# Altium footprint library 智能饮水机.PcbLib: 20 footprints (part 2 of 2)
Each footprint in its own frame and in the unit in brackets; x right, y up, seen from the top. Pads: shape width x height; smd on the part's side, far side on the other; paste and mask are expansions set on the pad; w line width, h text height; cw(c..) or ccw(c..) is an arc to the next point about the centre after c.
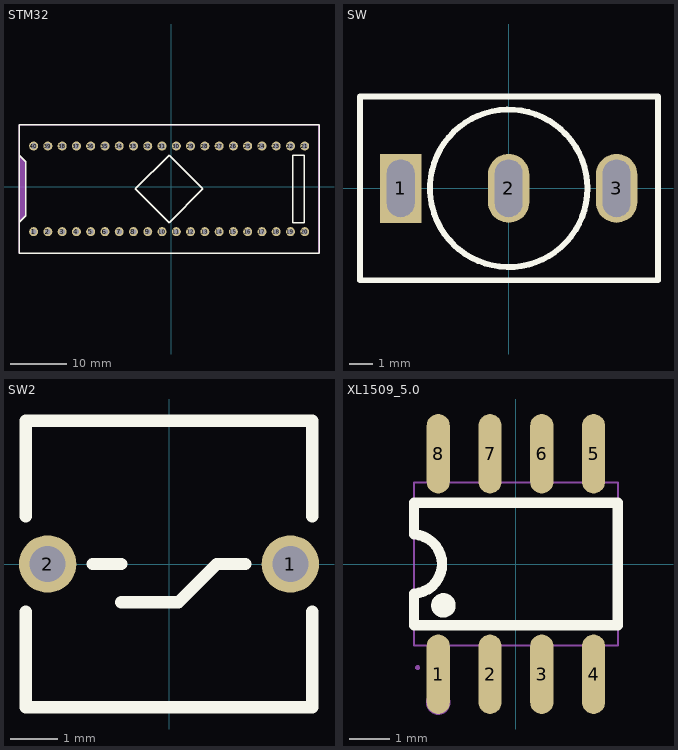
[diagram p1: the footprints below, top view; thin cyan lines are the x and y axes]

## STM32 [mm]
pads (40):
  round 1.6 hole 1: 1(-24.511,-8.001) 2(-21.971,-8.001) 3(-19.431,-8.001) 4(-16.891,-8.001) 5(-14.351,-8.001) 6(-11.811,-8.001) 7(-9.271,-8.001) 8(-6.731,-8.001) 9(-4.191,-8.001) 10(-1.651,-8.001) 11(0.889,-8.001) 12(3.429,-8.001) 13(5.969,-8.001) 14(8.509,-8.001) 15(11.049,-8.001) 16(13.589,-8.001) 17(16.129,-8.001) 18(18.669,-8.001) 19(21.209,-8.001) 20(23.749,-8.001) 21(23.749,7.239) 22(21.209,7.239) 23(18.669,7.239) 24(16.129,7.239) 25(13.589,7.239) 26(11.049,7.239) 27(8.509,7.239) 28(5.969,7.239) 29(3.429,7.239) 30(0.889,7.239) 31(-1.651,7.239) 32(-4.191,7.239) 33(-6.731,7.239) 34(-9.271,7.239) 35(-11.811,7.239) 36(-14.351,7.239) 37(-16.891,7.239) 38(-19.431,7.239) 39(-21.971,7.239) 40(-24.511,7.239)
Top Overlay:
  lines w0.254: -27.051,-6.326 -25.881,-5.156 -25.881,3.619 -25.881,4.417 -27.051,5.587 ; -27.051,-11.811 -27.051,11.049 26.289,11.049 26.289,-11.811 -27.051,-11.811 ; -6.381,-0.381 -0.381,5.619 5.619,-0.381 -0.381,-6.381 -6.381,-0.381 ; 21.619,-6.381 23.619,-6.381 23.619,5.619 21.619,5.619 21.619,-6.381
Mechanical 6:
  region: -27.051,5.587 -25.881,4.417 -25.881,-5.156 -27.051,-6.326
Mechanical 15:
  drawing of 45 lines, arcs and shapes, not listed

## SW [mm]
pads (3):
  rect 1.8x3 hole 1.2 slot 2.5 at 90 deg: 1(-4.7,0)
  oval 1.8x3 hole 1.2 slot 2.5 at 90 deg: 2(0,0) 3(4.7,0)
Top Overlay:
  circle w0.254: c0,0 r3.429
  lines w0.254: -6.477,-4 -6.477,4 6.5,4 6.5,-4 -6.477,-4
Mechanical 15:
  region: -0.4,1 0.4,1 0.4,-1 -0.4,-1
  region: -5.1,1 -4.3,1 -4.3,-1 -5.1,-1
  region: 4.3,1 5.1,1 5.1,-1 4.3,-1
  region: -6.44,-4 -6.44,-3.975 -6.475,-3.94 -6.525,-3.94 -6.56,-3.975 -6.56,-4 -6.56,-4.025 -6.525,-4.06 -6.475,-4.06 -6.44,-4.025
  lines w0.051: -6.5,-4 -6.5,4 6.5,4 6.5,-4 -6.5,-4

## SW2 [mm]
pads (2):
  round 1.2 hole 0.75: 1(2.54,0) 2(-2.54,0)
Top Overlay:
  lines w0.254: -3,-1 -3,-3 3,-3 3,-1 ; -3,1 -3,3 3,3 3,1 ; -1.6,0 -1,0 ; -1,-0.8 0.2,-0.8 1,0 1.6,0

## XL1509_5.0 [mil]
pads (8):
  oval 22.38x76.78 smd: 1(-75,-106.5) 2(-25,-106.5) 3(25,-106.5) 4(75,-106.5) 5(75,106.5) 6(25,106.5) 7(-25,106.5) 8(-75,106.5)
Top Overlay:
  circle w11.81: c-70,-40 r5.91
  lines w10: -98.43,-28.61 ccw(c-99.99,0) -98.23,28.59 ; -98.42,-28.61 -98.42,-59.05 98.42,-59.05 98.42,59.05 -98.42,59.05 -98.42,28.59
Mechanical 6:
  circle w11.81: c-75,-133.86 r5.91
Mechanical 15:
  region: -92.64,-100 -92.64,-99.02 -94.02,-97.64 -95.98,-97.64 -97.36,-99.02 -97.36,-100 -97.36,-100.98 -95.98,-102.36 -94.02,-102.36 -92.64,-100.98
  region: 66.93,76.38 66.93,85.63 83.07,85.63 83.07,76.38
  region: 66.93,85.24 66.93,118.11 83.07,118.11 83.07,85.24
  region: 16.93,76.38 16.93,85.63 33.07,85.63 33.07,76.38
  region: 16.93,85.24 16.93,118.11 33.07,118.11 33.07,85.24
  region: -33.07,76.38 -33.07,85.63 -16.93,85.63 -16.93,76.38
  region: -33.07,85.24 -33.07,118.11 -16.93,118.11 -16.93,85.24
  region: -83.07,76.38 -83.07,85.63 -66.93,85.63 -66.93,76.38
  region: -83.07,85.24 -83.07,118.11 -66.93,118.11 -66.93,85.24
  region: 66.93,-85.63 66.93,-76.38 83.07,-76.38 83.07,-85.63
  region: 66.93,-118.11 66.93,-85.24 83.07,-85.24 83.07,-118.11
  region: 16.93,-85.63 16.93,-76.38 33.07,-76.38 33.07,-85.63
  region: 16.93,-118.11 16.93,-85.24 33.07,-85.24 33.07,-118.11
  region: -33.07,-85.63 -33.07,-76.38 -16.93,-76.38 -16.93,-85.63
  region: -33.07,-118.11 -33.07,-85.24 -16.93,-85.24 -16.93,-118.11
  region: -83.07,-85.63 -83.07,-76.38 -66.93,-76.38 -66.93,-85.63
  region: -83.07,-118.11 -83.07,-85.24 -66.93,-85.24 -66.93,-118.11
  lines w2: -98.42,-78.74 -98.42,78.74 98.42,78.74 98.42,-78.74 -98.42,-78.74